# Altium schematic symbol library BatteryHolder.SchLib: 1 symbol
Pins are listed as number, name and electrical type; pins without a type are passive.

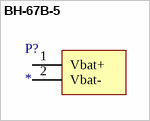
[diagram p0: symbol BH-67B-5]

## BH-67B-5
designator P?
BATTERY HOLDER CR 2032
footprint PCBComponent_1
pins: 1 Vbat+ (power), 2 Vbat- (power)